# EAGLE library part SOIC8-ISP (library SmallRoomLabs)
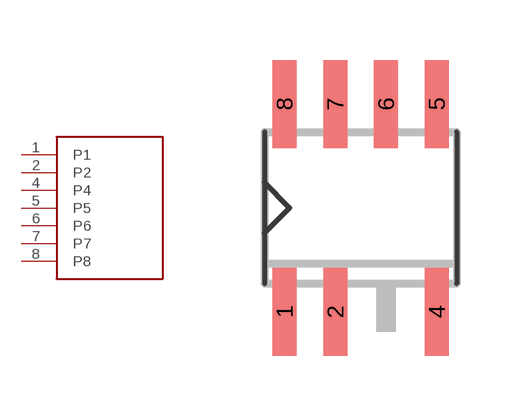
[diagram p15: symbol with the pads of SOIC8-ISP; footprint SOIC8-ISP]

Designator prefix -

## SOIC8-ISP  [SOIC8-ISP]
1  P1
2  P2
4  P4
5  P5
6  P6
7  P7
8  P8

## Footprint SOIC8-ISP (pad centres in mm)
smd 0.6 x 2.2: 1 -1.905,-2.6; 2 -0.635,-2.6; 4 1.905,-2.6; 5 1.905,2.6; 6 0.635,2.6; 7 -0.635,2.6; 8 -1.905,2.6